# EAGLE library part TXB0106 (library quentin)
6-bit level shifter
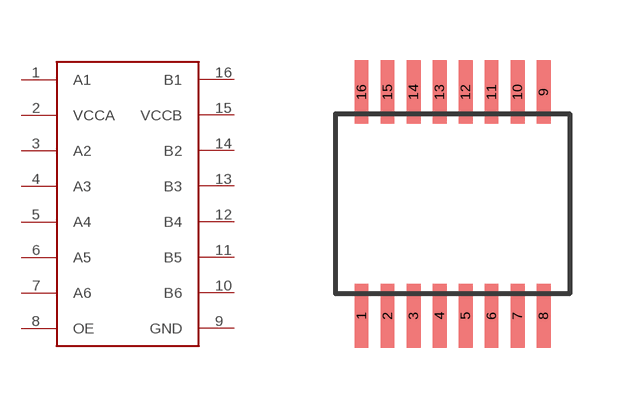
[diagram p16: symbol with the pads of TSSOP16; footprint TSSOP16]

Designator prefix -

## TXB0106  [TSSOP16]
1  A1
2  VCCA
3  A2
4  A3
5  A4
6  A5
7  A6
8  OE
9  GND
10  B6
11  B5
12  B4
13  B3
14  B2
15  VCCB
16  B1

## Footprint TSSOP16 (pad centres in mm)
smd 0.35 x 1.6: 1 0,0; 2 0.65,0; 3 1.3,0; 4 1.95,0; 5 2.6,0; 6 3.25,0; 7 3.9,0; 8 4.55,0; 9 4.55,5.6; 10 3.9,5.6; 11 3.25,5.6; 12 2.6,5.6; 13 1.95,5.6; 14 1.3,5.6; 15 0.65,5.6; 16 0,5.6